# Altium footprint library BC547C.PcbLib: 2 footprints
Each footprint in its own frame and in the unit in brackets; x right, y up, seen from the top. Pads: shape width x height; smd on the part's side, far side on the other; paste and mask are expansions set on the pad; w line width, h text height; cw(c..) or ccw(c..) is an arc to the next point about the centre after c.
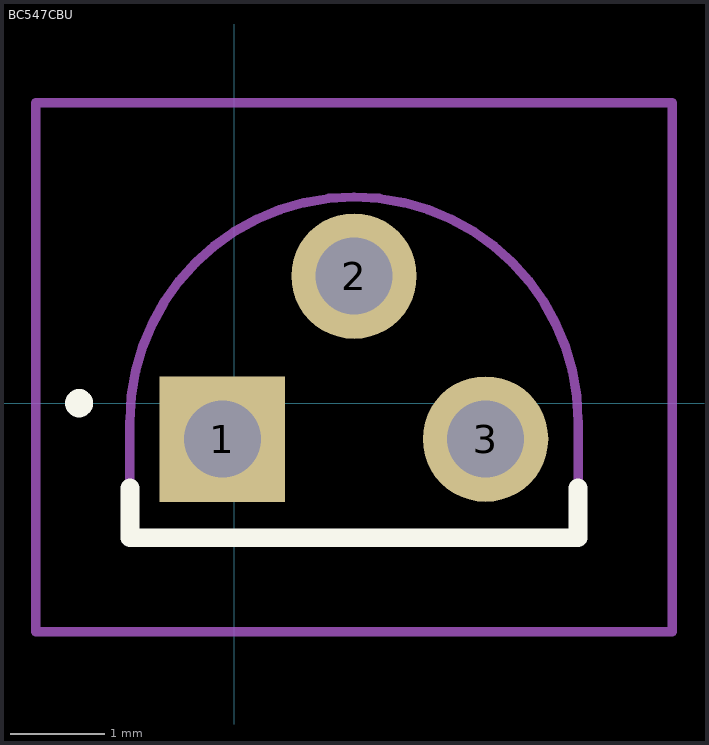
[diagram p0: the footprints below, top view; thin cyan lines are the x and y axes]

## BC547CBU [mil]
pads (3):
  rect 52.48x52.48 hole 32.28: 1(-5,-15)
  round 52.48 hole 32.28: 2(50,53.15) 3(105,-15)
Top Overlay:
  lines w7.87: -43.7,-35.43 -43.7,-56.3 143.7,-56.3 143.7,-35.43 ; -66.93,0 ccw(c-64.96,0) -62.99,0 ; -66.93,0 cw(c-64.96,0) -62.99,0 ; -66.93,0 ccw(c-64.96,0) -62.99,0
Mechanical 13:
  lines w3.94: -43.7,-56.3 50,-56.3 143.7,-56.3 143.7,-7.48 ccw(c50,-7.48) -43.7,-7.48 -43.7,-56.3
Mechanical 15:
  lines w3.94: -83.07,-95.67 183.07,-95.67 183.07,125.59 -83.07,125.59 -83.07,-95.67
3D body "BC547CBU.stp": height 213.78, standoff -196.85, extent -43.7,-56.3 143.7,86.22

## PCBComponent_1 [mil]